# Altium footprint library DMP_PcbLib_SEM_MAIN_BOARD.PcbLib: 39 footprints (part 2 of 3)
Each footprint in its own frame and in the unit in brackets; x right, y up, seen from the top. Pads: shape width x height; smd on the part's side, far side on the other; paste and mask are expansions set on the pad; w line width, h text height; cw(c..) or ccw(c..) is an arc to the next point about the centre after c.
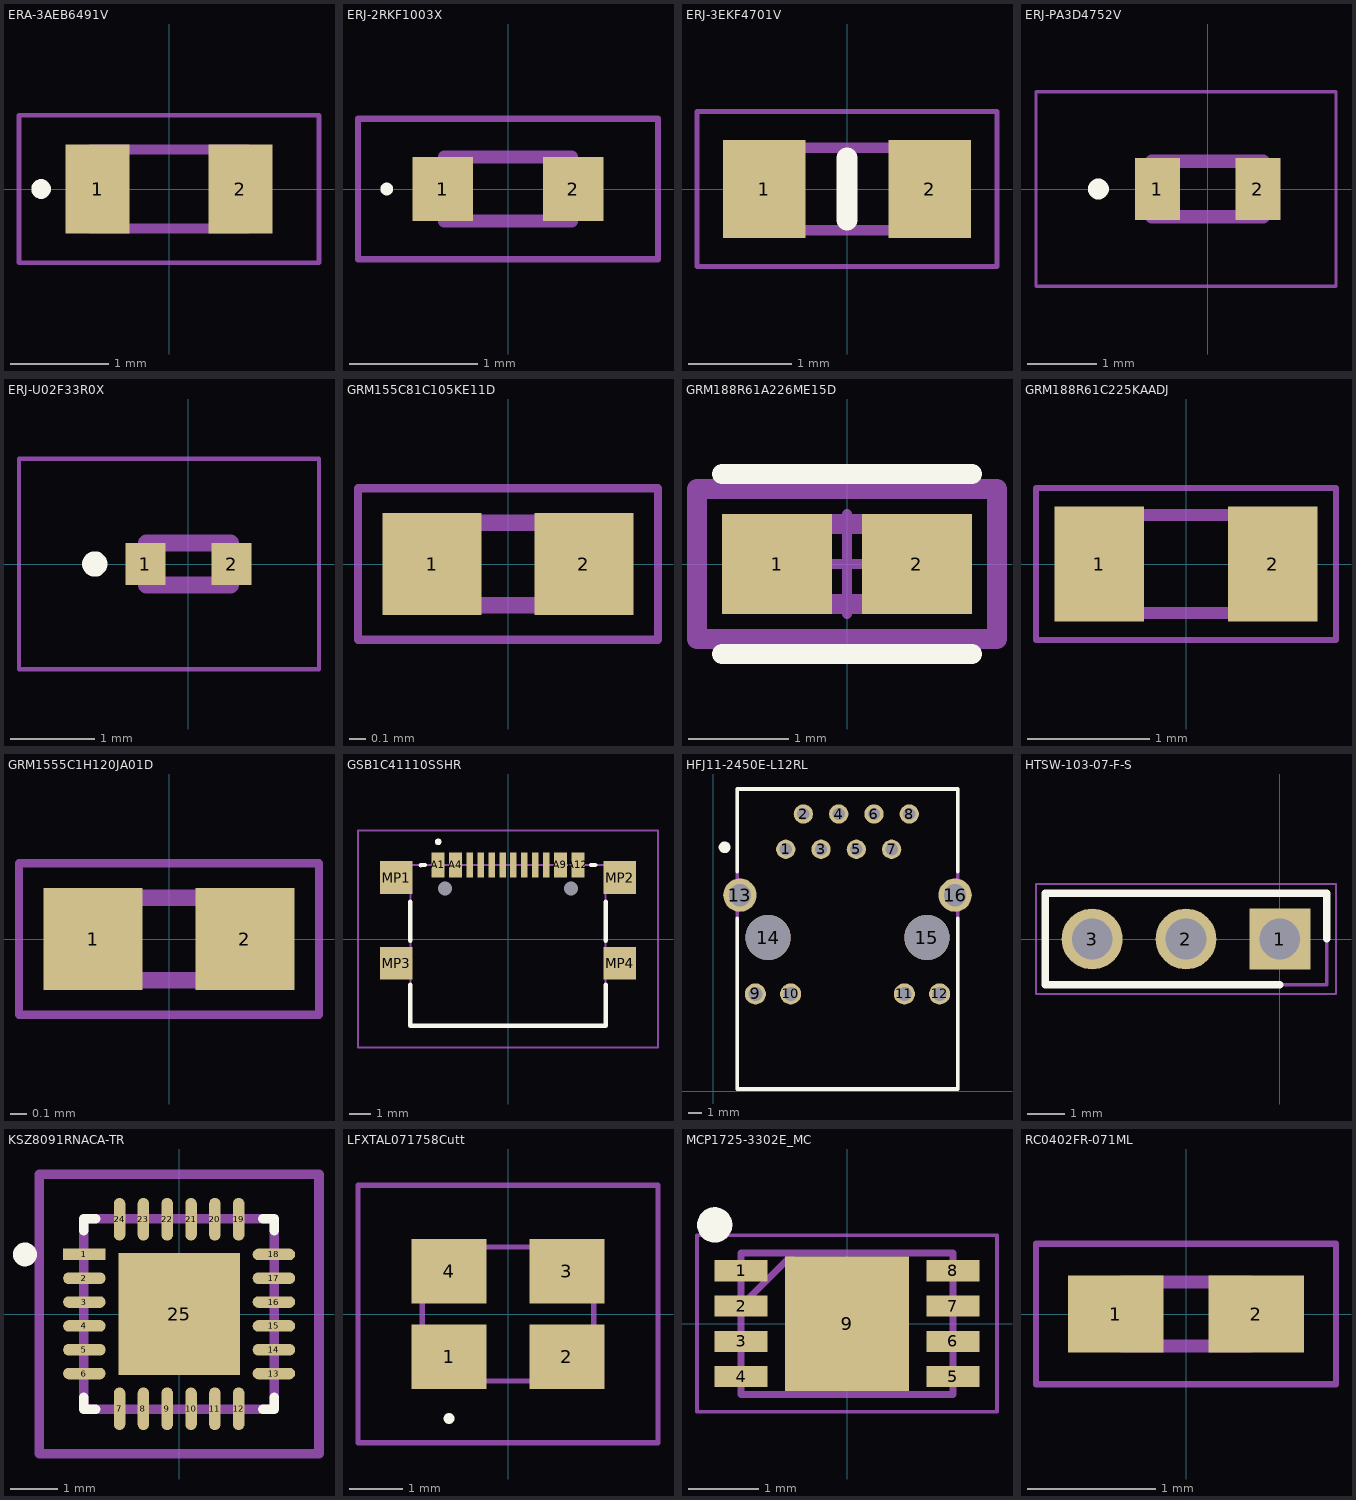
[diagram p1: the footprints below, top view; thin cyan lines are the x and y axes]

## ERA-3AEB6491V [mm]
pads (2):
  rect 0.65x0.9 smd: 1(-0.725,0) 2(0.725,0)
Top Overlay:
  lines w0.1: -1.3,-0.05 ccw(c-1.3,0) -1.3,0.05 ccw(c-1.3,0) -1.3,-0.05
Top 3D Body:
  lines w0.1: -0.8,-0.4 -0.8,0.4 0.8,0.4 0.8,-0.4 -0.8,-0.4
Top Courtyard:
  lines w0.05: -1.525,-0.75 -1.525,0.75 1.525,0.75 1.525,-0.75 -1.525,-0.75
3D body "ERA-3AEB6491V.stp": height 0.45, standoff 0, extent -0.8,-0.4 0.8,0.4

## ERJ-2RKF1003X [mm]
pads (2):
  rect 0.475x0.5 smd: 1(-0.512,0) 2(0.512,0)
Top Overlay:
  lines w0.05: -0.95,-0.025 ccw(c-0.95,0) -0.95,0.025 ccw(c-0.95,0) -0.95,-0.025
Top 3D Body:
  lines w0.1: -0.5,-0.25 -0.5,0.25 0.5,0.25 0.5,-0.25 -0.5,-0.25
Top Courtyard:
  lines w0.05: -1.175,-0.55 -1.175,0.55 1.175,0.55 1.175,-0.55 -1.175,-0.55
3D body "ERJ-2RKF1003X.stp": height 0.35, standoff 0, extent -0.5,-0.25 0.5,0.25

## ERJ-3EKF4701V [mm]
pads (2):
  rect 0.8x0.95 smd: 1(-0.8,0) 2(0.8,0)
Top Overlay:
  lines w0.2: 0,-0.3 0,0.3
Top 3D Body:
  lines w0.1: -0.8,-0.4 -0.8,0.4 0.8,0.4 0.8,-0.4 -0.8,-0.4
Top Courtyard:
  lines w0.05: -1.45,-0.75 -1.45,0.75 1.45,0.75 1.45,-0.75 -1.45,-0.75
3D body "RT0603BRD075K1L.stp": height 0.55, standoff 0, extent -0.8,-0.4 0.8,0.4

## ERJ-PA3D4752V [mm]
pads (2):
  rect 0.65x0.9 smd: 1(-0.725,0) 2(0.725,0)
Top Overlay:
  circle w0.2: c-1.575,0 r0.05
Top 3D Body:
  lines w0.2: -0.8,-0.4 -0.8,0.4 0.8,0.4 0.8,-0.4 -0.8,-0.4
Top Courtyard:
  lines w0.05: -2.475,-1.4 -2.475,1.4 1.85,1.4 1.85,-1.4 -2.475,-1.4
3D body "ERJ-PA3D4752V.stp": height 0.45, standoff 0, extent -0.8,-0.4 0.8,0.4

## ERJ-U02F33R0X [mm]
pads (2):
  rect 0.475x0.5 smd: 1(-0.513,0) 2(0.513,0)
Top Overlay:
  circle w0.2: c-1.112,0 r0.05
Top 3D Body:
  lines w0.2: -0.5,-0.25 -0.5,0.25 0.5,0.25 0.5,-0.25 -0.5,-0.25
Top Courtyard:
  lines w0.05: -2.013,-1.25 -2.013,1.25 1.55,1.25 1.55,-1.25 -2.013,-1.25
3D body "ERJ-U02F33R0X.stp": height 0.35, standoff 0, extent -0.5,-0.25 0.5,0.25

## GRM155C81C105KE11D [mm]
pads (2):
  rect 0.6x0.62 smd: 1(-0.46,0) 2(0.46,0)
Top 3D Body:
  lines w0.1: -0.5,-0.25 -0.5,0.25 0.5,0.25 0.5,-0.25 -0.5,-0.25
Top Courtyard:
  lines w0.05: -0.91,-0.46 -0.91,0.46 0.91,0.46 0.91,-0.46 -0.91,-0.46
3D body "CC0402KRX7R7BB104.stp": height 0.55, standoff 0, extent -0.52,-0.28 0.53,0.27

## GRM188R61A226ME15D [mm]
pads (2):
  rect 1.105x1.006 smd paste+0 mask+0: 1(-0.701,0) 2(0.701,0)
Top Overlay:
  lines w0.2: -1.253,-0.903 1.253,-0.903 ; -1.253,0.903 1.253,0.903
Top Assembly:
  lines w0.2: -1.503,-0.753 1.503,-0.753 1.503,0.753 -1.503,0.753 -1.503,-0.753
  text ".Designator" at 0,0.187 h1
Top 3D Body:
  lines w0.2: -0.8,-0.4 0.8,-0.4 0.8,0.4 -0.8,0.4 -0.8,-0.4
Top Courtyard:
  lines w0.2: -1.503,-0.753 1.503,-0.753 1.503,0.753 -1.503,0.753 -1.503,-0.753
Top Component Center:
  lines w0.1: -0.5,0 0.5,0 ; 0,-0.5 0,0.5
3D body "Cap_Murata_GRM188C71C225KE11D_eec.STEP": height 0.25, standoff 0, extent -1.503,-0.753 1.503,0.753

## GRM188R61C225KAADJ [mm]
pads (2):
  rect 0.73x0.94 smd: 1(-0.71,0) 2(0.71,0)
Top 3D Body:
  lines w0.1: -0.8,-0.4 -0.8,0.4 0.8,0.4 0.8,-0.4 -0.8,-0.4
Top Courtyard:
  lines w0.05: -1.225,-0.62 -1.225,0.62 1.225,0.62 1.225,-0.62 -1.225,-0.62
3D body "CL10A475KP8NNNC.stp": height 0.9, standoff 0, extent -0.8,-0.4 0.8,0.4

## GRM1555C1H120JA01D [mm]
pads (2):
  rect 0.6x0.62 smd: 1(-0.46,0) 2(0.46,0)
Top 3D Body:
  lines w0.1: -0.5,-0.25 0.5,-0.25 0.5,0.25 -0.5,0.25 -0.5,-0.25
Top Courtyard:
  lines w0.05: -0.91,-0.46 0.91,-0.46 0.91,0.46 -0.91,0.46 -0.91,-0.46
3D body "CC0402KRX7R7BB104.stp": height 0.55, standoff 0, extent -0.52,-0.28 0.53,0.27

## GSB1C41110SSHR [mm]
pads (18):
  rect 0.6x1.15 smd: A1(-3.2,3.39) A4(-2.4,3.39) A9(2.4,3.39) A12(3.2,3.39)
  rect 0.3x1.15 smd: A5(-1.25,3.39) A6(-0.25,3.39) A7(0.25,3.39) A8(1.25,3.39) B5(1.75,3.39) B6(0.75,3.39) B7(-0.75,3.39) B8(-1.75,3.39)
  round 0.325 hole 0.65 unplated: MH1(-2.89,2.315) MH2(2.89,2.315)
  rect 1.5x1.5 smd: MP1(-5.12,2.815) MP2(5.12,2.815) MP3(-5.12,-1.115) MP4(5.12,-1.115)
Top Overlay:
  lines w0.2: -4.47,-2.088 -4.47,-3.965 4.47,-3.965 4.47,-2.088 ; -4.47,-0.088 -4.47,1.712 ; -4,3.385 -3.8,3.39 ; 3.8,3.39 4,3.39 ; 4.47,-0.088 4.47,1.712 ; -3.2,4.4 cw(c-3.2,4.45) -3.2,4.5 ; -3.2,4.4 ccw(c-3.2,4.45) -3.2,4.5 ; -3.2,4.4 cw(c-3.2,4.45) -3.2,4.5
Top 3D Body:
  lines w0.1: -4.47,-3.965 -4.47,3.385 4.47,3.385 4.47,-3.965 -4.47,-3.965
Top Courtyard:
  lines w0.1: -6.87,-4.965 -6.87,4.965 6.87,4.965 6.87,-4.965 -6.87,-4.965
3D body "GSB1C41110SSHR.stp": height 3.12, standoff -0.76, extent -5.67,-4.088 5.67,3.51

## HFJ11-2450E-L12RL [mm]
pads (16):
  round 1.39 hole 0.89: 1(5.207,17.399) 2(6.477,19.939) 3(7.747,17.399) 4(9.017,19.939) 5(10.287,17.399) 6(11.557,19.939) 7(12.827,17.399) 8(14.097,19.939)
  round 1.52 hole 1.02: 9(3.022,6.989) 10(5.562,6.989) 11(13.742,6.989) 12(16.282,6.989)
  round 2.4 hole 1.6: 13(1.907,14.099) 16(17.397,14.099)
  round 3.25 hole 3.25 unplated: 14(3.937,11.049) 15(15.367,11.049)
Top Overlay:
  circle w0.5: c0.807,17.543 r0.174
  lines w0.254: 1.712,12.449 1.712,0.149 17.592,0.149 17.592,12.449 ; 1.712,15.799 1.712,21.739 17.592,21.739 17.592,15.799
Top 3D Body:
  lines w0.254: 1.712,0.149 1.712,21.739 17.592,21.739 17.592,0.149 1.712,0.149
3D body "HFJ11-2450E-L12RL.stp": height 16.01, standoff -2.89, extent 0.192,0.242 18.912,21.832

## HTSW-103-07-F-S [mm]
pads (3):
  rect 1.65x1.65 hole 1.1: 1(0,0)
  round 1.65 hole 1.1: 2(-2.54,0) 3(-5.08,0)
Top Overlay:
  lines w0.2: 0,-1.24 -6.35,-1.24 -6.35,1.24 1.27,1.24 1.27,0
Top 3D Body:
  lines w0.1: -6.35,-1.24 -6.35,1.24 1.27,1.24 1.27,-1.24 -6.35,-1.24
Top Courtyard:
  lines w0.05: -6.6,-1.49 -6.6,1.49 1.52,1.49 1.52,-1.49 -6.6,-1.49
3D body "HTSW-103-07-F-S.stp": height 8.38, standoff -2.54, extent -6.35,-1.24 1.27,1.24

## KSZ8091RNACA-TR [mm]
pads (25):
  rect 0.894x0.242 smd paste+0 mask+0: 1(-1.989,1.25)
  rrect100% 0.894x0.242 smd paste+0 mask+0: 2(-1.989,0.75) 3(-1.989,0.25) 4(-1.989,-0.25) 5(-1.989,-0.75) 6(-1.989,-1.25) 13(1.989,-1.25) 14(1.989,-0.75) 15(1.989,-0.25) 16(1.989,0.25) 17(1.989,0.75) 18(1.989,1.25)
  rrect100% 0.242x0.894 smd paste+0 mask+0: 7(-1.25,-1.989) 8(-0.75,-1.989) 9(-0.25,-1.989) 10(0.25,-1.989) 11(0.75,-1.989) 12(1.25,-1.989) 19(1.25,1.989) 20(0.75,1.989) 21(0.25,1.989) 22(-0.25,1.989) 23(-0.75,1.989) 24(-1.25,1.989)
  rect 2.55x2.55 smd paste-1000 mask+0: 25(0,0)
Top Overlay:
  circle w0.25: c-3.235,1.25 r0.125
  lines w0.2: -2,-1.75 -2,-2 -1.75,-2 ; -2,1.75 -2,2 -1.75,2 ; 1.75,-2 2,-2 2,-1.75 ; 1.75,2 2,2 2,1.75
Top Paste:
  rectangle: -0.806,-0.806 0.806,0.806
Top Assembly:
  lines w0.2: -2.935,-2.935 2.935,-2.935 2.935,2.935 -2.935,2.935 -2.935,-2.935
  text ".Designator" at 0,0.187 h1
Top 3D Body:
  lines w0.2: -2,-2 2,-2 2,2 -2,2 -2,-2
Top Courtyard:
  lines w0.2: -2.935,-2.935 2.935,-2.935 2.935,2.935 -2.935,2.935 -2.935,-2.935
Top Component Center:
  lines w0.1: -0.5,0 0.5,0 ; 0,-0.5 0,0.5
3D body "IC_Microchip_KSZ8081RNDCA-TR_eec.STEP": height 0.25, standoff 0, extent -2.935,-2.935 2.935,2.935

## LFXTAL071758Cutt [mm]
pads (4):
  rect 1.4x1.2 smd: 1(-1.1,-0.8) 2(1.1,-0.8) 3(1.1,0.8) 4(-1.1,0.8)
Top Overlay:
  lines w0.1: -1.1,-2 cw(c-1.1,-1.95) -1.1,-1.9 cw(c-1.1,-1.95) -1.1,-2
Top 3D Body:
  lines w0.1: -1.6,-1.25 -1.6,1.25 1.6,1.25 1.6,-1.25 -1.6,-1.25
Top Courtyard:
  lines w0.1: -2.8,-2.4 -2.8,2.4 2.8,2.4 2.8,-2.4 -2.8,-2.4
3D body "LFXTAL071758Cutt.stp": height 0.9, standoff 0, extent -1.68,-1.28 1.68,1.28

## MCP1725-3302E_MC [mm]
pads (9):
  rect 0.75x0.3 smd: 1(-1.5,0.75) 2(-1.5,0.25) 3(-1.5,-0.25) 4(-1.5,-0.75) 5(1.5,-0.75) 6(1.5,-0.25) 7(1.5,0.25) 8(1.5,0.75)
  rect 1.75x1.9 smd: 9(0,0)
Top Overlay:
  circle w0.25: c-1.875,1.4 r0.125
Top 3D Body:
  lines w0.1: -1.5,0.25 -0.75,1 ; -1.5,-1 -1.5,1 1.5,1 1.5,-1 -1.5,-1
Top Courtyard:
  lines w0.05: -2.125,-1.25 -2.125,1.25 2.125,1.25 2.125,-1.25 -2.125,-1.25
3D body "MCP1725-3302E_MC.stp": height 1, standoff 0, extent -1.55,-1 1.55,1

## RC0402FR-071ML [mm]
pads (2):
  rect 0.75x0.6 smd: 1(-0.55,0) 2(0.55,0)
Top 3D Body:
  lines w0.1: -0.5,-0.25 0.5,-0.25 0.5,0.25 -0.5,0.25 -0.5,-0.25
Top Courtyard:
  lines w0.05: -1.175,-0.55 1.175,-0.55 1.175,0.55 -1.175,0.55 -1.175,-0.55
3D body "RC0402FR-0722RL.stp": height 0.4, standoff 0, extent -0.5,-0.25 0.5,0.25